# EAGLE library part MINILOCK_VERT_15PIN (library molex)
2.50mm Pitch Mini-Lock™ Wire-to-Board Header, Vertical, Friction and Positive Lock, 15 Circuits Part Number: 53375-0210 http://www.molex.com/molex/products/datasheet.jsp?part=active/0533750210_PCB_HEADERS.xml NOTE: 3A per contact maximum!
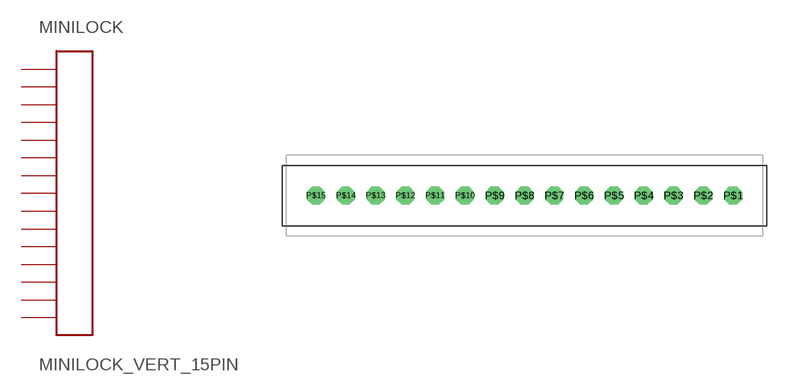
[diagram p1: symbol with the pads of MINILOCK_VERT_15PIN; footprint MINILOCK_VERT_15PIN]

Designator prefix MINILOCK

## MINILOCK_VERT_15PIN53375-1510  [MINILOCK_VERT_15PIN]
P$1  P$1
P$2  P$2
P$3  P$3
P$4  P$4
P$5  P$5
P$6  P$6
P$7  P$7
P$8  P$8
P$9  P$9
P$10  P$10
P$11  P$11
P$12  P$12
P$13  P$13
P$14  P$14
P$15  P$15

## Footprint MINILOCK_VERT_15PIN (pad centres in mm)
drill 1 octagon: P$1 17.5,0; P$2 15,0; P$3 12.5,0; P$4 10,0; P$5 7.5,0; P$6 5,0; P$7 2.5,0; P$8 0,0; P$9 -2.5,0; P$10 -5,0; P$11 -7.5,0; P$12 -10,0; P$13 -12.5,0; P$14 -15,0; P$15 -17.5,0